# Altium integrated library TCA9406.IntLib: 1 symbol
Pins are listed as number, name and electrical type; pins without a type are passive.

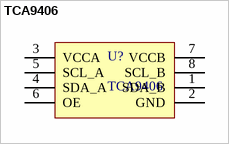
[diagram p0: symbol TCA9406]

## TCA9406
designator U?
Supplier 1: Farnell; Supplier 2: Digi-Key; Supplier 3: Mouser; Supplier Part Number 1: 1972384; Supplier Part Number 2: 296-28108-1-ND; Supplier Part Number 3: 595-TCA9406DCTR
footprint LSSOP-8
pins: 1 SDA_B, 2 GND, 3 VCCA, 4 SDA_A, 5 SCL_A, 6 OE, 7 VCCB, 8 SCL_B